# EAGLE library part NRF51822 (library mbed-HDK-MF-NODRIC)
nRF51822 BLUETOOTH IC RF TXRX+MCU 48VFQFN
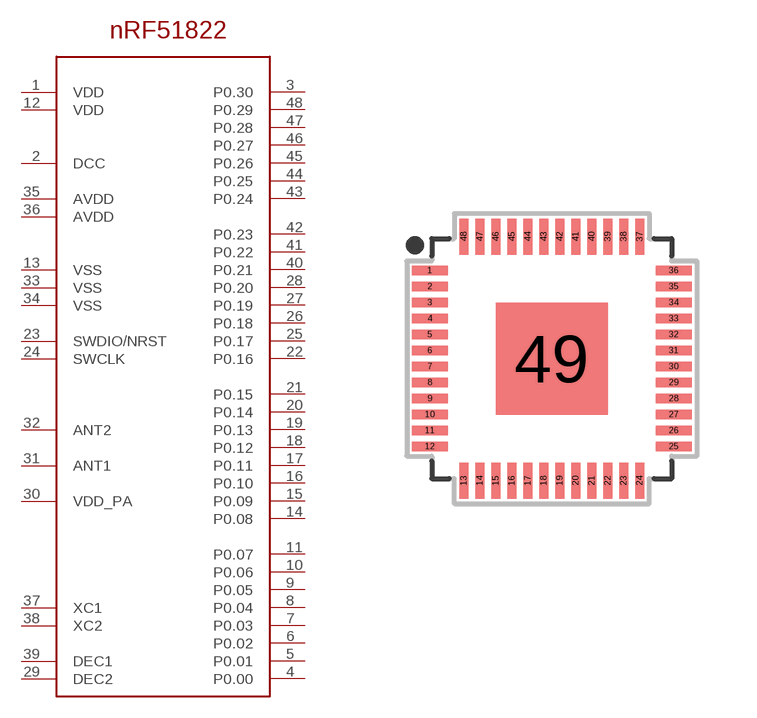
[diagram p0: symbol with the pads of SOT778-2; footprint SOT778-2]

Designator prefix U

## NRF51822_QFN48 (MF: Nordic Semiconductor; MFN: NRF51822-QFAA-R7; OC-DIGIKEY: 1490-1031-1-ND; OC-MOUSER: 949-NRF51822-QFAA-R7)  [SOT778-2]
1  VDD
2  DCC
3  P0.30
4  P0.00
5  P0.01
6  P0.02
7  P0.03
8  P0.04
9  P0.05
10  P0.06
11  P0.07
12  VDD
13  VSS
14  P0.08
15  P0.09
16  P0.10
17  P0.11
18  P0.12
19  P0.13
20  P0.14
21  P0.15
22  P0.16
23  SWDIO/NRST
24  SWCLK
25  P0.17
26  P0.18
27  P0.19
28  P0.20
29  DEC2
30  VDD_PA
31  ANT1
32  ANT2
33  VSS
34  VSS
35  AVDD
36  AVDD
37  XC1
38  XC2
39  DEC1
40  P0.21
41  P0.22
42  P0.23
43  P0.24
44  P0.25
45  P0.26
46  P0.27
47  P0.28
48  P0.29

## Footprint SOT778-2 (pad centres in mm)
SOT778-2 HVQFN48: plastic thermal enhanced very thin quad flat package; no leads; 48 terminals; body 6 x 6 x 0.85 mm JEDEC: -- IEC: -- JEITA: --
smd 0.9 x 0.23: 1 -3.05,2.2; 2 -3.05,1.8; 3 -3.05,1.4; 4 -3.05,1; 5 -3.05,0.6; 6 -3.05,0.2; 7 -3.05,-0.2; 8 -3.05,-0.6; 9 -3.05,-1; 10 -3.05,-1.4; 11 -3.05,-1.8; 12 -3.05,-2.2; 25 3.05,-2.2; 26 3.05,-1.8; 27 3.05,-1.4; 28 3.05,-1; 29 3.05,-0.6; 30 3.05,-0.2; 31 3.05,0.2; 32 3.05,0.6; 33 3.05,1; 34 3.05,1.4; 35 3.05,1.8; 36 3.05,2.2
smd 0.23 x 0.9: 13 -2.2,-3.05; 14 -1.8,-3.05; 15 -1.4,-3.05; 16 -1,-3.05; 17 -0.6,-3.05; 18 -0.2,-3.05; 19 0.2,-3.05; 20 0.6,-3.05; 21 1,-3.05; 22 1.4,-3.05; 23 1.8,-3.05; 24 2.2,-3.05; 37 2.2,3.05; 38 1.8,3.05; 39 1.4,3.05; 40 1,3.05; 41 0.6,3.05; 42 0.2,3.05; 43 -0.2,3.05; 44 -0.6,3.05; 45 -1,3.05; 46 -1.4,3.05; 47 -1.8,3.05; 48 -2.2,3.05
smd 2.8 x 2.8: 49 0,0